# Altium footprint library SM_TactSwitch_KSC-PF-J.PcbLib: 1 footprints
Each footprint in its own frame and in the unit in brackets; x right, y up, seen from the top. Pads: shape width x height; smd on the part's side, far side on the other; paste and mask are expansions set on the pad; w line width, h text height; cw(c..) or ccw(c..) is an arc to the next point about the centre after c.
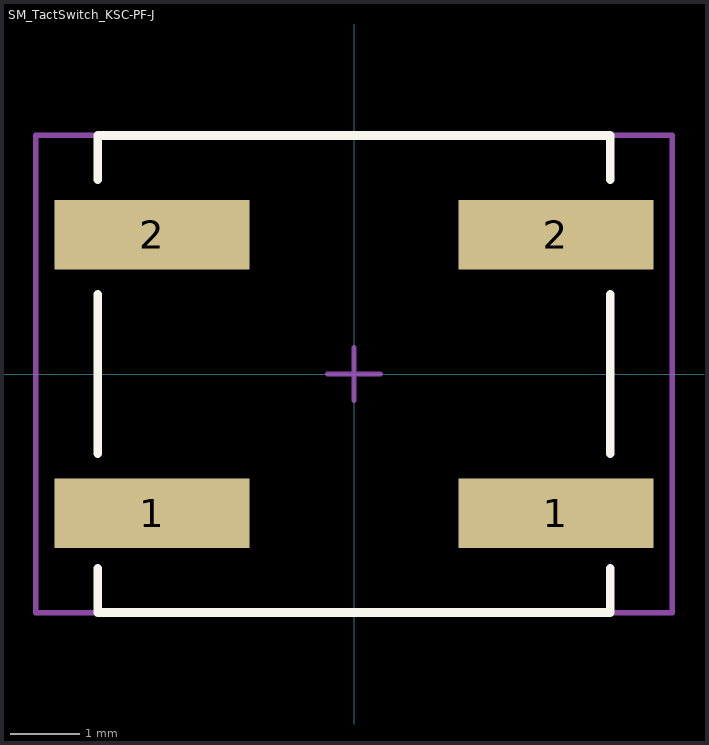
[diagram p0: the footprint, top view; thin cyan lines are the x and y axes]

## SM_TactSwitch_KSC-PF-J [mm] "Tactile Switch - J Termination"
height 5.2
pads (4):
  rect 2.8x1 smd mask+0.076: 1(-2.9,-2) 1(2.9,-2) 2(-2.9,2) 2(2.9,2)
Top Overlay:
  lines w0.127: -3.683,-2.794 -3.683,-3.429 3.683,-3.429 3.683,-2.794 ; -3.683,-1.143 -3.683,1.143 ; -3.683,2.794 -3.683,3.429 3.683,3.429 3.683,2.794 ; 3.683,-1.143 3.683,1.143
Mechanical 15:
  lines w0.076: -0.381,0 0.381,0 ; 0,-0.381 0,0.381 ; -4.572,-3.429 -4.572,3.429 4.572,3.429 4.572,-3.429 -4.572,-3.429
3D body "KSC421J70SHLFSPF.stp": height 5.2, standoff -0.01, extent -3.4,-3.15 3.4,3.15